# Altium schematic symbol library jlcpcb_2025_04_inductors_extended_0201.schlib: 459 symbols (part 2 of 9)
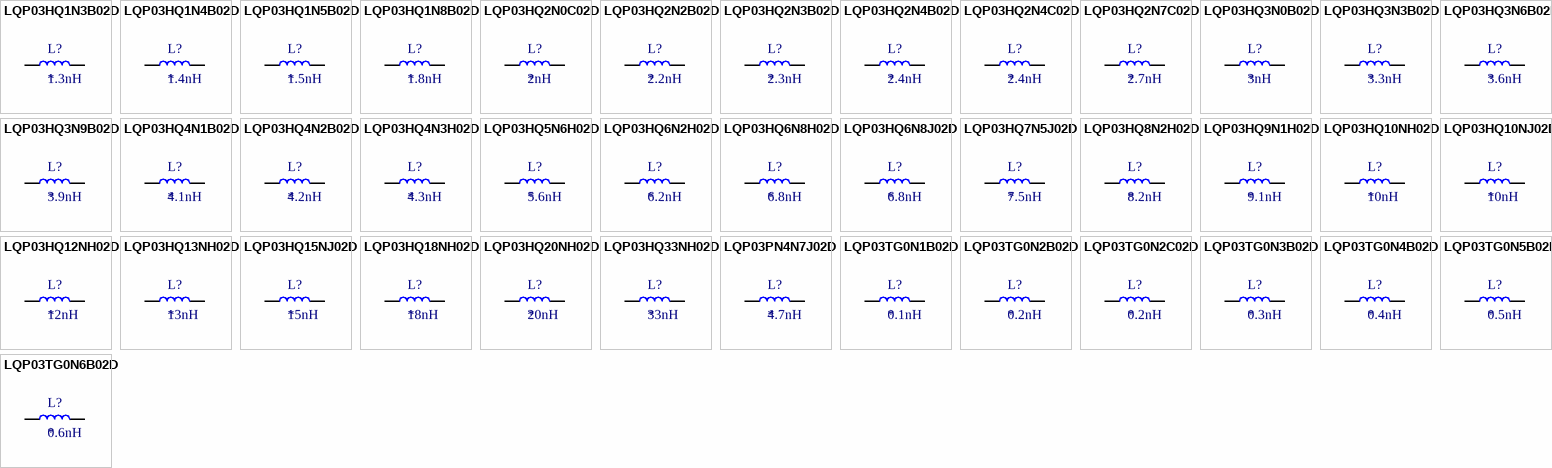
[diagram p12: symbols LQP03HQ1N3B02D to LQP03TG0N6B02D]

## LQP03HQ4N2B02D
designator L?  Inductance: 4.2nH
Inductor, 4.2nH, 170mΩ, 500mA, SMD 0201; Manufacturer: Murata Electronics; Manufacturer Part Number: LQP03HQ4N2B02D; Self-Resonant Frequency: 7GHz; Q Factor: 20@500MHz; Package Size: 0201; JLCPCB Basic Part: No; JLCPCB Part Number: C2043631; Supplier 1: LCSC; Category: Inductors; Supplier Part Number 1: C2043631; Rated Current: 500mA; DC Resistance: 170mΩ; RoHS: Yes; ComponentLink1Description: Datasheet; ComponentLink1URL: https://wmsc.lcsc.com/wmsc/upload/file/pdf/v2/lcsc/2304140030_Murata-Electronics-LQP03HQ4N2B02D_C2043631.pdf; ComponentLink2Description: JLCPCB Part URL; ComponentLink2URL: https://jlcpcb.com/partdetail/C2043631; ComponentLink3Description: LCSC Part URL; ComponentLink3URL: https://lcsc.com/product-detail/Inductors-SMD_Murata-Electronics-Murata-Electronics-LQP03HQ4N2B02D_C2043631.html
footprint IND-0201 (0201 (0603M) Inductor)
pins: 1, 2

## LQP03HQ4N3H02D
designator L?  Inductance: 4.3nH
Inductor, 4.3nH, ±3%, 170mΩ, 500mA, SMD 0201; Manufacturer: Murata Electronics; Manufacturer Part Number: LQP03HQ4N3H02D; Self-Resonant Frequency: 7GHz; Q Factor: 20@500MHz; Package Size: 0201; JLCPCB Basic Part: No; JLCPCB Part Number: C2988753; Supplier 1: LCSC; Category: Inductors; Supplier Part Number 1: C2988753; Tolerance: ±3%; Rated Current: 500mA; DC Resistance: 170mΩ; RoHS: Yes; ComponentLink1Description: Datasheet; ComponentLink1URL: https://wmsc.lcsc.com/wmsc/upload/file/pdf/v2/lcsc/2204151800_Murata-Electronics-LQP03HQ4N3H02D_C2988753.pdf; ComponentLink2Description: JLCPCB Part URL; ComponentLink2URL: https://jlcpcb.com/partdetail/C2988753; ComponentLink3Description: LCSC Part URL; ComponentLink3URL: https://lcsc.com/product-detail/Inductors-SMD_Murata-Electronics-Murata-Electronics-LQP03HQ4N3H02D_C2988753.html
footprint IND-0201 (0201 (0603M) Inductor)
pins: 1, 2

## LQP03HQ5N6H02D
designator L?  Inductance: 5.6nH
Inductor, 5.6nH, ±3%, 250mΩ, 400mA, SMD 0201; Manufacturer: Murata Electronics; Manufacturer Part Number: LQP03HQ5N6H02D; Self-Resonant Frequency: 5.5GHz; Q Factor: 20@500MHz; Package Size: 0201; JLCPCB Basic Part: No; JLCPCB Part Number: C237444; Supplier 1: LCSC; Category: Inductors; Supplier Part Number 1: C237444; Tolerance: ±3%; Rated Current: 400mA; DC Resistance: 250mΩ; RoHS: Yes; ComponentLink1Description: Datasheet; ComponentLink1URL: https://wmsc.lcsc.com/wmsc/upload/file/pdf/v2/lcsc/2304140030_Murata-Electronics-LQP03HQ5N6H02D_C237444.pdf; ComponentLink2Description: JLCPCB Part URL; ComponentLink2URL: https://jlcpcb.com/partdetail/C237444; ComponentLink3Description: LCSC Part URL; ComponentLink3URL: https://lcsc.com/product-detail/Inductors-SMD_Murata-Electronics-Murata-Electronics-LQP03HQ5N6H02D_C237444.html
footprint IND-0201 (0201 (0603M) Inductor)
pins: 1, 2

## LQP03HQ6N2H02D
designator L?  Inductance: 6.2nH
Inductor, 6.2nH, ±3%, 250mΩ, 400mA, SMD 0201; Manufacturer: Murata Electronics; Manufacturer Part Number: LQP03HQ6N2H02D; Self-Resonant Frequency: 5.5GHz; Q Factor: 20@500MHz; Package Size: 0201; JLCPCB Basic Part: No; JLCPCB Part Number: C2041601; Supplier 1: LCSC; Category: Inductors; Supplier Part Number 1: C2041601; Tolerance: ±3%; Rated Current: 400mA; DC Resistance: 250mΩ; RoHS: Yes; ComponentLink1Description: Datasheet; ComponentLink1URL: https://wmsc.lcsc.com/wmsc/upload/file/pdf/v2/lcsc/2304140030_Murata-Electronics-LQP03HQ6N2H02D_C2041601.pdf; ComponentLink2Description: JLCPCB Part URL; ComponentLink2URL: https://jlcpcb.com/partdetail/C2041601; ComponentLink3Description: LCSC Part URL; ComponentLink3URL: https://lcsc.com/product-detail/Inductors-SMD_Murata-Electronics-Murata-Electronics-LQP03HQ6N2H02D_C2041601.html
footprint IND-0201 (0201 (0603M) Inductor)
pins: 1, 2

## LQP03HQ6N8H02D
designator L?  Inductance: 6.8nH
Inductor, 6.8nH, ±3%, 250mΩ, 400mA, SMD 0201; Manufacturer: Murata Electronics; Manufacturer Part Number: LQP03HQ6N8H02D; Self-Resonant Frequency: 5.5GHz; Q Factor: 20@500MHz; Package Size: 0201; JLCPCB Basic Part: No; JLCPCB Part Number: C237385; Supplier 1: LCSC; Category: Inductors; Supplier Part Number 1: C237385; Tolerance: ±3%; Rated Current: 400mA; DC Resistance: 250mΩ; RoHS: Yes; ComponentLink1Description: Datasheet; ComponentLink1URL: https://wmsc.lcsc.com/wmsc/upload/file/pdf/v2/lcsc/2304140030_Murata-Electronics-LQP03HQ6N8H02D_C237385.pdf; ComponentLink2Description: JLCPCB Part URL; ComponentLink2URL: https://jlcpcb.com/partdetail/C237385; ComponentLink3Description: LCSC Part URL; ComponentLink3URL: https://lcsc.com/product-detail/Inductors-SMD_Murata-Electronics-Murata-Electronics-LQP03HQ6N8H02D_C237385.html
footprint IND-0201 (0201 (0603M) Inductor)
pins: 1, 2

## LQP03HQ6N8J02D
designator L?  Inductance: 6.8nH
Inductor, 6.8nH, ±5%, 250mΩ, 400mA, SMD 0201; Manufacturer: Murata Electronics; Manufacturer Part Number: LQP03HQ6N8J02D; Self-Resonant Frequency: 5.5GHz; Q Factor: 20@500MHz; Package Size: 0201; JLCPCB Basic Part: No; JLCPCB Part Number: C337941; Supplier 1: LCSC; Category: Inductors; Supplier Part Number 1: C337941; Tolerance: ±5%; Rated Current: 400mA; DC Resistance: 250mΩ; RoHS: Yes; ComponentLink1Description: Datasheet; ComponentLink1URL: https://wmsc.lcsc.com/wmsc/upload/file/pdf/v2/lcsc/2304140030_Murata-Electronics-LQP03HQ6N8J02D_C337941.pdf; ComponentLink2Description: JLCPCB Part URL; ComponentLink2URL: https://jlcpcb.com/partdetail/C337941; ComponentLink3Description: LCSC Part URL; ComponentLink3URL: https://lcsc.com/product-detail/Inductors-SMD_Murata-Electronics-Murata-Electronics-LQP03HQ6N8J02D_C337941.html
footprint IND-0201 (0201 (0603M) Inductor)
pins: 1, 2

## LQP03HQ7N5J02D
designator L?  Inductance: 7.5nH
Inductor, 7.5nH, ±5%, 300mΩ, 400mA, SMD 0201; Manufacturer: Murata Electronics; Manufacturer Part Number: LQP03HQ7N5J02D; Self-Resonant Frequency: 4.5GHz; Q Factor: 20@500MHz; Package Size: 0201; JLCPCB Basic Part: No; JLCPCB Part Number: C237448; Supplier 1: LCSC; Category: Inductors; Supplier Part Number 1: C237448; Tolerance: ±5%; Rated Current: 400mA; DC Resistance: 300mΩ; RoHS: Yes; ComponentLink1Description: Datasheet; ComponentLink1URL: https://wmsc.lcsc.com/wmsc/upload/file/pdf/v2/lcsc/2304140030_Murata-Electronics-LQP03HQ7N5J02D_C237448.pdf; ComponentLink2Description: JLCPCB Part URL; ComponentLink2URL: https://jlcpcb.com/partdetail/C237448; ComponentLink3Description: LCSC Part URL; ComponentLink3URL: https://lcsc.com/product-detail/Inductors-SMD_Murata-Electronics-Murata-Electronics-LQP03HQ7N5J02D_C237448.html
footprint IND-0201 (0201 (0603M) Inductor)
pins: 1, 2

## LQP03HQ8N2H02D
designator L?  Inductance: 8.2nH
Inductor, 8.2nH, ±3%, 400mΩ, 300mA, SMD 0201; Manufacturer: Murata Electronics; Manufacturer Part Number: LQP03HQ8N2H02D; Self-Resonant Frequency: 4.5GHz; Q Factor: 20@500MHz; Package Size: 0201; JLCPCB Basic Part: No; JLCPCB Part Number: C269808; Supplier 1: LCSC; Category: Inductors; Supplier Part Number 1: C269808; Tolerance: ±3%; Rated Current: 300mA; DC Resistance: 400mΩ; RoHS: Yes; ComponentLink1Description: Datasheet; ComponentLink1URL: https://wmsc.lcsc.com/wmsc/upload/file/pdf/v2/lcsc/2304140030_Murata-Electronics-LQP03HQ8N2H02D_C269808.pdf; ComponentLink2Description: JLCPCB Part URL; ComponentLink2URL: https://jlcpcb.com/partdetail/C269808; ComponentLink3Description: LCSC Part URL; ComponentLink3URL: https://lcsc.com/product-detail/Inductors-SMD_Murata-Electronics-Murata-Electronics-LQP03HQ8N2H02D_C269808.html
footprint IND-0201 (0201 (0603M) Inductor)
pins: 1, 2

## LQP03HQ9N1H02D
designator L?  Inductance: 9.1nH
Inductor, 9.1nH, ±3%, 400mΩ, 300mA, SMD 0201; Manufacturer: Murata Electronics; Manufacturer Part Number: LQP03HQ9N1H02D; Self-Resonant Frequency: 4.5GHz; Q Factor: 20@500MHz; Package Size: 0201; JLCPCB Basic Part: No; JLCPCB Part Number: C337942; Supplier 1: LCSC; Category: Inductors; Supplier Part Number 1: C337942; Tolerance: ±3%; Rated Current: 300mA; DC Resistance: 400mΩ; RoHS: Yes; ComponentLink1Description: Datasheet; ComponentLink1URL: https://wmsc.lcsc.com/wmsc/upload/file/pdf/v2/lcsc/2304140030_Murata-Electronics-LQP03HQ9N1H02D_C337942.pdf; ComponentLink2Description: JLCPCB Part URL; ComponentLink2URL: https://jlcpcb.com/partdetail/C337942; ComponentLink3Description: LCSC Part URL; ComponentLink3URL: https://lcsc.com/product-detail/Inductors-SMD_Murata-Electronics-Murata-Electronics-LQP03HQ9N1H02D_C337942.html
footprint IND-0201 (0201 (0603M) Inductor)
pins: 1, 2

## LQP03HQ10NH02D
designator L?  Inductance: 10nH
Inductor, 10nH, ±3%, 400mΩ, 300mA, SMD 0201; Manufacturer: Murata Electronics; Manufacturer Part Number: LQP03HQ10NH02D; Self-Resonant Frequency: 4.5GHz; Q Factor: 20@500MHz; Package Size: 0201; JLCPCB Basic Part: No; JLCPCB Part Number: C337934; Supplier 1: LCSC; Category: Inductors; Supplier Part Number 1: C337934; Tolerance: ±3%; Rated Current: 300mA; DC Resistance: 400mΩ; RoHS: Yes; ComponentLink1Description: Datasheet; ComponentLink1URL: https://wmsc.lcsc.com/wmsc/upload/file/pdf/v2/lcsc/2304140030_Murata-Electronics-LQP03HQ10NH02D_C337934.pdf; ComponentLink2Description: JLCPCB Part URL; ComponentLink2URL: https://jlcpcb.com/partdetail/C337934; ComponentLink3Description: LCSC Part URL; ComponentLink3URL: https://lcsc.com/product-detail/Inductors-SMD_Murata-Electronics-Murata-Electronics-LQP03HQ10NH02D_C337934.html
footprint IND-0201 (0201 (0603M) Inductor)
pins: 1, 2

## LQP03HQ10NJ02D
designator L?  Inductance: 10nH
Inductor, 10nH, ±5%, 400mΩ, 300mA, SMD 0201; Manufacturer: Murata Electronics; Manufacturer Part Number: LQP03HQ10NJ02D; Self-Resonant Frequency: 5.9GHz; Q Factor: 20@500MHz; Package Size: 0201; JLCPCB Basic Part: No; JLCPCB Part Number: C2041464; Supplier 1: LCSC; Category: Inductors; Supplier Part Number 1: C2041464; Tolerance: ±5%; Rated Current: 300mA; DC Resistance: 400mΩ; RoHS: Yes; ComponentLink1Description: Datasheet; ComponentLink1URL: https://wmsc.lcsc.com/wmsc/upload/file/pdf/v2/lcsc/2304140030_Murata-Electronics-LQP03HQ10NJ02D_C2041464.pdf; ComponentLink2Description: JLCPCB Part URL; ComponentLink2URL: https://jlcpcb.com/partdetail/C2041464; ComponentLink3Description: LCSC Part URL; ComponentLink3URL: https://lcsc.com/product-detail/Inductors-SMD_Murata-Electronics-Murata-Electronics-LQP03HQ10NJ02D_C2041464.html
footprint IND-0201 (0201 (0603M) Inductor)
pins: 1, 2

## LQP03HQ12NH02D
designator L?  Inductance: 12nH
Inductor, 12nH, ±3%, 500mΩ, 300mA, SMD 0201; Manufacturer: Murata Electronics; Manufacturer Part Number: LQP03HQ12NH02D; Self-Resonant Frequency: 4GHz; Q Factor: 20@500MHz; Package Size: 0201; JLCPCB Basic Part: No; JLCPCB Part Number: C882473; Supplier 1: LCSC; Category: Inductors; Supplier Part Number 1: C882473; Tolerance: ±3%; Rated Current: 300mA; DC Resistance: 500mΩ; RoHS: Yes; ComponentLink1Description: Datasheet; ComponentLink1URL: https://wmsc.lcsc.com/wmsc/upload/file/pdf/v2/lcsc/2201242130_Murata-Electronics-LQP03HQ12NH02D_C882473.pdf; ComponentLink2Description: JLCPCB Part URL; ComponentLink2URL: https://jlcpcb.com/partdetail/C882473; ComponentLink3Description: LCSC Part URL; ComponentLink3URL: https://lcsc.com/product-detail/Inductors-SMD_Murata-Electronics-Murata-Electronics-LQP03HQ12NH02D_C882473.html
footprint IND-0201 (0201 (0603M) Inductor)
pins: 1, 2

## LQP03HQ13NH02D
designator L?  Inductance: 13nH
Inductor, 13nH, ±3%, 500mΩ, 300mA, SMD 0201; Manufacturer: Murata Electronics; Manufacturer Part Number: LQP03HQ13NH02D; Self-Resonant Frequency: 4GHz; Q Factor: 20@500MHz; Package Size: 0201; JLCPCB Basic Part: No; JLCPCB Part Number: C2044030; Supplier 1: LCSC; Category: Inductors; Supplier Part Number 1: C2044030; Tolerance: ±3%; Rated Current: 300mA; DC Resistance: 500mΩ; RoHS: Yes; ComponentLink1Description: Datasheet; ComponentLink1URL: https://wmsc.lcsc.com/wmsc/upload/file/pdf/v2/lcsc/2304140030_Murata-Electronics-LQP03HQ13NH02D_C2044030.pdf; ComponentLink2Description: JLCPCB Part URL; ComponentLink2URL: https://jlcpcb.com/partdetail/C2044030; ComponentLink3Description: LCSC Part URL; ComponentLink3URL: https://lcsc.com/product-detail/Inductors-SMD_Murata-Electronics-Murata-Electronics-LQP03HQ13NH02D_C2044030.html
footprint IND-0201 (0201 (0603M) Inductor)
pins: 1, 2

## LQP03HQ15NJ02D
designator L?  Inductance: 15nH
Inductor, 15nH, ±5%, 700mΩ, 300mA, SMD 0201; Manufacturer: Murata Electronics; Manufacturer Part Number: LQP03HQ15NJ02D; Self-Resonant Frequency: 3.5GHz; Q Factor: 20@500MHz; Package Size: 0201; JLCPCB Basic Part: No; JLCPCB Part Number: C426324; Supplier 1: LCSC; Category: Inductors; Supplier Part Number 1: C426324; Tolerance: ±5%; Rated Current: 300mA; DC Resistance: 700mΩ; RoHS: Yes; ComponentLink1Description: Datasheet; ComponentLink1URL: https://wmsc.lcsc.com/wmsc/upload/file/pdf/v2/lcsc/1912111437_Murata-Electronics-LQP03HQ15NJ02D_C426324.pdf; ComponentLink2Description: JLCPCB Part URL; ComponentLink2URL: https://jlcpcb.com/partdetail/C426324; ComponentLink3Description: LCSC Part URL; ComponentLink3URL: https://lcsc.com/product-detail/Inductors-SMD_Murata-Electronics-Murata-Electronics-LQP03HQ15NJ02D_C426324.html
footprint IND-0201 (0201 (0603M) Inductor)
pins: 1, 2

## LQP03HQ18NH02D
designator L?  Inductance: 18nH
Inductor, 18nH, ±3%, 800mΩ, 250mA, SMD 0201; Manufacturer: Murata Electronics; Manufacturer Part Number: LQP03HQ18NH02D; Self-Resonant Frequency: 4.2GHz; Q Factor: 20@500MHz; Package Size: 0201; JLCPCB Basic Part: No; JLCPCB Part Number: C337936; Supplier 1: LCSC; Category: Inductors; Supplier Part Number 1: C337936; Tolerance: ±3%; Rated Current: 250mA; DC Resistance: 800mΩ; RoHS: Yes; ComponentLink1Description: Datasheet; ComponentLink1URL: https://wmsc.lcsc.com/wmsc/upload/file/pdf/v2/lcsc/2304140030_Murata-Electronics-LQP03HQ18NH02D_C337936.pdf; ComponentLink2Description: JLCPCB Part URL; ComponentLink2URL: https://jlcpcb.com/partdetail/C337936; ComponentLink3Description: LCSC Part URL; ComponentLink3URL: https://lcsc.com/product-detail/Inductors-SMD_Murata-Electronics-Murata-Electronics-LQP03HQ18NH02D_C337936.html
footprint IND-0201 (0201 (0603M) Inductor)
pins: 1, 2

## LQP03HQ20NH02D
designator L?  Inductance: 20nH
Inductor, 20nH, ±3%, 800mΩ, 250mA, SMD 0201; Manufacturer: Murata Electronics; Manufacturer Part Number: LQP03HQ20NH02D; Self-Resonant Frequency: 3GHz; Q Factor: 20@500MHz; Package Size: 0201; JLCPCB Basic Part: No; JLCPCB Part Number: C2043820; Supplier 1: LCSC; Category: Inductors; Supplier Part Number 1: C2043820; Tolerance: ±3%; Rated Current: 250mA; DC Resistance: 800mΩ; RoHS: Yes; ComponentLink1Description: Datasheet; ComponentLink1URL: https://wmsc.lcsc.com/wmsc/upload/file/pdf/v2/lcsc/2304140030_Murata-Electronics-LQP03HQ20NH02D_C2043820.pdf; ComponentLink2Description: JLCPCB Part URL; ComponentLink2URL: https://jlcpcb.com/partdetail/C2043820; ComponentLink3Description: LCSC Part URL; ComponentLink3URL: https://lcsc.com/product-detail/Inductors-SMD_Murata-Electronics-Murata-Electronics-LQP03HQ20NH02D_C2043820.html
footprint IND-0201 (0201 (0603M) Inductor)
pins: 1, 2

## LQP03HQ33NH02D
designator L?  Inductance: 33nH
Inductor, 33nH, ±3%, 2Ω, 150mA, SMD 0201; Manufacturer: Murata Electronics; Manufacturer Part Number: LQP03HQ33NH02D; Self-Resonant Frequency: 1.7GHz; Q Factor: 12@300MHz; Package Size: 0201; JLCPCB Basic Part: No; JLCPCB Part Number: C1857880; Supplier 1: LCSC; Category: Inductors; Supplier Part Number 1: C1857880; Tolerance: ±3%; Rated Current: 150mA; DC Resistance: 2Ω; RoHS: Yes; ComponentLink1Description: Datasheet; ComponentLink1URL: https://wmsc.lcsc.com/wmsc/upload/file/pdf/v2/lcsc/2304140030_Murata-Electronics-LQP03HQ33NH02D_C1857880.pdf; ComponentLink2Description: JLCPCB Part URL; ComponentLink2URL: https://jlcpcb.com/partdetail/C1857880; ComponentLink3Description: LCSC Part URL; ComponentLink3URL: https://lcsc.com/product-detail/Inductors-SMD_Murata-Electronics-Murata-Electronics-LQP03HQ33NH02D_C1857880.html
footprint IND-0201 (0201 (0603M) Inductor)
pins: 1, 2

## LQP03PN4N7J02D
designator L?  Inductance: 4.7nH
Inductor, 4.7nH, ±5%, 140mΩ, 900mA, SMD 0201; Manufacturer: Murata Electronics; Manufacturer Part Number: LQP03PN4N7J02D; Self-Resonant Frequency: 4.4GHz; Q Factor: 10@500MHz; Package Size: 0201; JLCPCB Basic Part: No; JLCPCB Part Number: C2043850; Supplier 1: LCSC; Category: Inductors; Supplier Part Number 1: C2043850; Tolerance: ±5%; Rated Current: 900mA; DC Resistance: 140mΩ; RoHS: Yes; ComponentLink1Description: Datasheet; ComponentLink1URL: https://wmsc.lcsc.com/wmsc/upload/file/pdf/v2/lcsc/2308111541_Murata-Electronics-LQP03PN4N7J02D_C2043850.pdf; ComponentLink2Description: JLCPCB Part URL; ComponentLink2URL: https://jlcpcb.com/partdetail/C2043850; ComponentLink3Description: LCSC Part URL; ComponentLink3URL: https://lcsc.com/product-detail/Inductors-SMD_Murata-Electronics-Murata-Electronics-LQP03PN4N7J02D_C2043850.html
footprint IND-0201 (0201 (0603M) Inductor)
pins: 1, 2

## LQP03TG0N1B02D
designator L?  Inductance: 0.1nH
Inductor, 0.1nH, 70mΩ, 850mA, SMD 0201; Manufacturer: Murata Electronics; Manufacturer Part Number: LQP03TG0N1B02D; Self-Resonant Frequency: 20GHz; Package Size: 0201; JLCPCB Basic Part: No; JLCPCB Part Number: C701267; Supplier 1: LCSC; Category: Inductors; Supplier Part Number 1: C701267; Rated Current: 850mA; DC Resistance: 70mΩ; RoHS: Yes; ComponentLink1Description: Datasheet; ComponentLink1URL: https://wmsc.lcsc.com/wmsc/upload/file/pdf/v2/lcsc/2304140030_Murata-Electronics-LQP03TG0N1B02D_C701267.pdf; ComponentLink2Description: JLCPCB Part URL; ComponentLink2URL: https://jlcpcb.com/partdetail/C701267; ComponentLink3Description: LCSC Part URL; ComponentLink3URL: https://lcsc.com/product-detail/Inductors-SMD_Murata-Electronics-Murata-Electronics-LQP03TG0N1B02D_C701267.html
footprint IND-0201 (0201 (0603M) Inductor)
pins: 1, 2

## LQP03TG0N2B02D
designator L?  Inductance: 0.2nH
Inductor, 0.2nH, 80mΩ, 850mA, SMD 0201; Manufacturer: Murata Electronics; Manufacturer Part Number: LQP03TG0N2B02D; Self-Resonant Frequency: 20GHz; Package Size: 0201; JLCPCB Basic Part: No; JLCPCB Part Number: C701279; Supplier 1: LCSC; Category: Inductors; Supplier Part Number 1: C701279; Rated Current: 850mA; DC Resistance: 80mΩ; RoHS: Yes; ComponentLink1Description: Datasheet; ComponentLink1URL: https://wmsc.lcsc.com/wmsc/upload/file/pdf/v2/lcsc/2304140030_Murata-Electronics-LQP03TG0N2B02D_C701279.pdf; ComponentLink2Description: JLCPCB Part URL; ComponentLink2URL: https://jlcpcb.com/partdetail/C701279; ComponentLink3Description: LCSC Part URL; ComponentLink3URL: https://lcsc.com/product-detail/Inductors-SMD_Murata-Electronics-Murata-Electronics-LQP03TG0N2B02D_C701279.html
footprint IND-0201 (0201 (0603M) Inductor)
pins: 1, 2

## LQP03TG0N2C02D
designator L?  Inductance: 0.2nH
Inductor, 0.2nH, 80mΩ, 850mA, SMD 0201; Manufacturer: Murata Electronics; Manufacturer Part Number: LQP03TG0N2C02D; Self-Resonant Frequency: 20GHz; Package Size: 0201; JLCPCB Basic Part: No; JLCPCB Part Number: C703743; Supplier 1: LCSC; Category: Inductors; Supplier Part Number 1: C703743; Rated Current: 850mA; DC Resistance: 80mΩ; RoHS: Yes; ComponentLink1Description: Datasheet; ComponentLink1URL: https://wmsc.lcsc.com/wmsc/upload/file/pdf/v2/lcsc/2304140030_Murata-Electronics-LQP03TG0N2C02D_C703743.pdf; ComponentLink2Description: JLCPCB Part URL; ComponentLink2URL: https://jlcpcb.com/partdetail/C703743; ComponentLink3Description: LCSC Part URL; ComponentLink3URL: https://lcsc.com/product-detail/Inductors-SMD_Murata-Electronics-Murata-Electronics-LQP03TG0N2C02D_C703743.html
footprint IND-0201 (0201 (0603M) Inductor)
pins: 1, 2

## LQP03TG0N3B02D
designator L?  Inductance: 0.3nH
Inductor, 0.3nH, 80mΩ, 850mA, SMD 0201; Manufacturer: Murata Electronics; Manufacturer Part Number: LQP03TG0N3B02D; Self-Resonant Frequency: 18GHz; Package Size: 0201; JLCPCB Basic Part: No; JLCPCB Part Number: C437352; Supplier 1: LCSC; Category: Inductors; Supplier Part Number 1: C437352; Rated Current: 850mA; DC Resistance: 80mΩ; RoHS: Yes; ComponentLink1Description: Datasheet; ComponentLink1URL: https://wmsc.lcsc.com/wmsc/upload/file/pdf/v2/lcsc/2304140030_Murata-Electronics-LQP03TG0N3B02D_C437352.pdf; ComponentLink2Description: JLCPCB Part URL; ComponentLink2URL: https://jlcpcb.com/partdetail/C437352; ComponentLink3Description: LCSC Part URL; ComponentLink3URL: https://lcsc.com/product-detail/Inductors-SMD_Murata-Electronics-Murata-Electronics-LQP03TG0N3B02D_C437352.html
footprint IND-0201 (0201 (0603M) Inductor)
pins: 1, 2

## LQP03TG0N4B02D
designator L?  Inductance: 0.4nH
Inductor, 0.4nH, 80mΩ, 850mA, SMD 0201; Manufacturer: Murata Electronics; Manufacturer Part Number: LQP03TG0N4B02D; Self-Resonant Frequency: 18GHz; Package Size: 0201; JLCPCB Basic Part: No; JLCPCB Part Number: C701278; Supplier 1: LCSC; Category: Inductors; Supplier Part Number 1: C701278; Rated Current: 850mA; DC Resistance: 80mΩ; RoHS: Yes; ComponentLink1Description: Datasheet; ComponentLink1URL: https://wmsc.lcsc.com/wmsc/upload/file/pdf/v2/lcsc/2304140030_Murata-Electronics-LQP03TG0N4B02D_C701278.pdf; ComponentLink2Description: JLCPCB Part URL; ComponentLink2URL: https://jlcpcb.com/partdetail/C701278; ComponentLink3Description: LCSC Part URL; ComponentLink3URL: https://lcsc.com/product-detail/Inductors-SMD_Murata-Electronics-Murata-Electronics-LQP03TG0N4B02D_C701278.html
footprint IND-0201 (0201 (0603M) Inductor)
pins: 1, 2

## LQP03TG0N5B02D
designator L?  Inductance: 0.5nH
Inductor, 0.5nH, 80mΩ, 850mA, SMD 0201; Manufacturer: Murata Electronics; Manufacturer Part Number: LQP03TG0N5B02D; Self-Resonant Frequency: 20GHz; Q Factor: 11@500MHz; Package Size: 0201; JLCPCB Basic Part: No; JLCPCB Part Number: C206460; Supplier 1: LCSC; Category: Inductors; Supplier Part Number 1: C206460; Rated Current: 850mA; DC Resistance: 80mΩ; RoHS: Yes; ComponentLink1Description: Datasheet; ComponentLink1URL: https://wmsc.lcsc.com/wmsc/upload/file/pdf/v2/lcsc/2304140030_Murata-Electronics-LQP03TG0N5B02D_C206460.pdf; ComponentLink2Description: JLCPCB Part URL; ComponentLink2URL: https://jlcpcb.com/partdetail/C206460; ComponentLink3Description: LCSC Part URL; ComponentLink3URL: https://lcsc.com/product-detail/Inductors-SMD_Murata-Electronics-Murata-Electronics-LQP03TG0N5B02D_C206460.html
footprint IND-0201 (0201 (0603M) Inductor)
pins: 1, 2

## LQP03TG0N6B02D
designator L?  Inductance: 0.6nH
Inductor, 0.6nH, 80mΩ, 850mA, SMD 0201; Manufacturer: Murata Electronics; Manufacturer Part Number: LQP03TG0N6B02D; Self-Resonant Frequency: 20GHz; Q Factor: 11@500MHz; Package Size: 0201; JLCPCB Basic Part: No; JLCPCB Part Number: C162589; Supplier 1: LCSC; Category: Inductors; Supplier Part Number 1: C162589; Rated Current: 850mA; DC Resistance: 80mΩ; RoHS: Yes; ComponentLink1Description: Datasheet; ComponentLink1URL: https://wmsc.lcsc.com/wmsc/upload/file/pdf/v2/lcsc/2304140030_Murata-Electronics-LQP03TG0N6B02D_C162589.pdf; ComponentLink2Description: JLCPCB Part URL; ComponentLink2URL: https://jlcpcb.com/partdetail/C162589; ComponentLink3Description: LCSC Part URL; ComponentLink3URL: https://lcsc.com/product-detail/Inductors-SMD_Murata-Electronics-Murata-Electronics-LQP03TG0N6B02D_C162589.html
footprint IND-0201 (0201 (0603M) Inductor)
pins: 1, 2

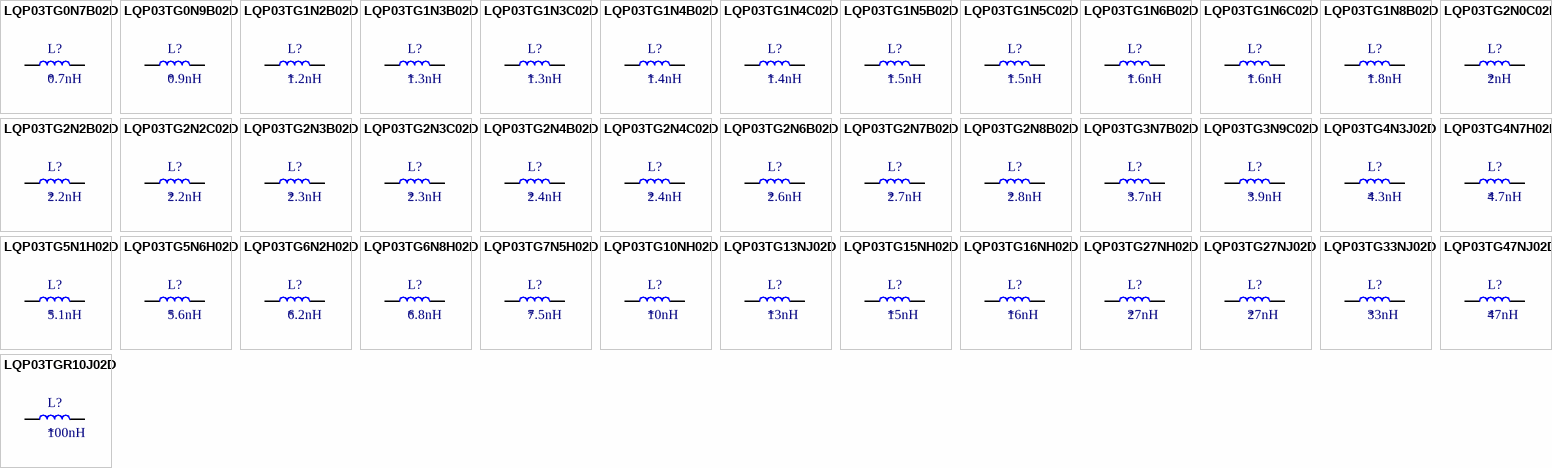
[diagram p2: symbols LQP03TG0N7B02D to LQP03TGR10J02D]

## LQP03TG0N7B02D
designator L?  Inductance: 0.7nH
Inductor, 0.7nH, 100mΩ, 750mA, SMD 0201; Manufacturer: Murata Electronics; Manufacturer Part Number: LQP03TG0N7B02D; Self-Resonant Frequency: 18GHz; Q Factor: 12@500MHz; Package Size: 0201; JLCPCB Basic Part: No; JLCPCB Part Number: C437353; Supplier 1: LCSC; Category: Inductors; Supplier Part Number 1: C437353; Rated Current: 750mA; DC Resistance: 100mΩ; RoHS: Yes; ComponentLink1Description: Datasheet; ComponentLink1URL: https://wmsc.lcsc.com/wmsc/upload/file/pdf/v2/lcsc/2304140030_Murata-Electronics-LQP03TG0N7B02D_C437353.pdf; ComponentLink2Description: JLCPCB Part URL; ComponentLink2URL: https://jlcpcb.com/partdetail/C437353; ComponentLink3Description: LCSC Part URL; ComponentLink3URL: https://lcsc.com/product-detail/Inductors-SMD_Murata-Electronics-Murata-Electronics-LQP03TG0N7B02D_C437353.html
footprint IND-0201 (0201 (0603M) Inductor)
pins: 1, 2

## LQP03TG0N9B02D
designator L?  Inductance: 0.9nH
Inductor, 0.9nH, 120mΩ, 700mA, SMD 0201; Manufacturer: Murata Electronics; Manufacturer Part Number: LQP03TG0N9B02D; Self-Resonant Frequency: 20GHz; Q Factor: 12@500MHz; Package Size: 0201; JLCPCB Basic Part: No; JLCPCB Part Number: C162590; Supplier 1: LCSC; Category: Inductors; Supplier Part Number 1: C162590; Rated Current: 700mA; DC Resistance: 120mΩ; RoHS: Yes; ComponentLink1Description: Datasheet; ComponentLink1URL: https://wmsc.lcsc.com/wmsc/upload/file/pdf/v2/lcsc/2304140030_Murata-Electronics-LQP03TG0N9B02D_C162590.pdf; ComponentLink2Description: JLCPCB Part URL; ComponentLink2URL: https://jlcpcb.com/partdetail/C162590; ComponentLink3Description: LCSC Part URL; ComponentLink3URL: https://lcsc.com/product-detail/Inductors-SMD_Murata-Electronics-Murata-Electronics-LQP03TG0N9B02D_C162590.html
footprint IND-0201 (0201 (0603M) Inductor)
pins: 1, 2

## LQP03TG1N2B02D
designator L?  Inductance: 1.2nH
Inductor, 1.2nH, 150mΩ, 600mA, SMD 0201; Manufacturer: Murata Electronics; Manufacturer Part Number: LQP03TG1N2B02D; Self-Resonant Frequency: 15GHz; Q Factor: 13@500MHz; Package Size: 0201; JLCPCB Basic Part: No; JLCPCB Part Number: C86101; Supplier 1: LCSC; Category: Inductors; Supplier Part Number 1: C86101; Rated Current: 600mA; DC Resistance: 150mΩ; RoHS: Yes; ComponentLink1Description: Datasheet; ComponentLink1URL: https://wmsc.lcsc.com/wmsc/upload/file/pdf/v2/lcsc/2304140030_Murata-Electronics-LQP03TG1N2B02D_C86101.pdf; ComponentLink2Description: JLCPCB Part URL; ComponentLink2URL: https://jlcpcb.com/partdetail/C86101; ComponentLink3Description: LCSC Part URL; ComponentLink3URL: https://lcsc.com/product-detail/Inductors-SMD_Murata-Electronics-Murata-Electronics-LQP03TG1N2B02D_C86101.html
footprint IND-0201 (0201 (0603M) Inductor)
pins: 1, 2

## LQP03TG1N3B02D
designator L?  Inductance: 1.3nH
Inductor, 1.3nH, 150mΩ, 600mA, SMD 0201; Manufacturer: Murata Electronics; Manufacturer Part Number: LQP03TG1N3B02D; Self-Resonant Frequency: 15GHz; Q Factor: 13@500MHz; Package Size: 0201; JLCPCB Basic Part: No; JLCPCB Part Number: C162591; Supplier 1: LCSC; Category: Inductors; Supplier Part Number 1: C162591; Rated Current: 600mA; DC Resistance: 150mΩ; RoHS: Yes; ComponentLink1Description: Datasheet; ComponentLink1URL: https://wmsc.lcsc.com/wmsc/upload/file/pdf/v2/lcsc/2304140030_Murata-Electronics-LQP03TG1N3B02D_C162591.pdf; ComponentLink2Description: JLCPCB Part URL; ComponentLink2URL: https://jlcpcb.com/partdetail/C162591; ComponentLink3Description: LCSC Part URL; ComponentLink3URL: https://lcsc.com/product-detail/Inductors-SMD_Murata-Electronics-Murata-Electronics-LQP03TG1N3B02D_C162591.html
footprint IND-0201 (0201 (0603M) Inductor)
pins: 1, 2

## LQP03TG1N3C02D
designator L?  Inductance: 1.3nH
Inductor, 1.3nH, 150mΩ, 600mA, SMD 0201; Manufacturer: Murata Electronics; Manufacturer Part Number: LQP03TG1N3C02D; Self-Resonant Frequency: 15GHz; Q Factor: 13@500MHz; Package Size: 0201; JLCPCB Basic Part: No; JLCPCB Part Number: C269809; Supplier 1: LCSC; Category: Inductors; Supplier Part Number 1: C269809; Rated Current: 600mA; DC Resistance: 150mΩ; RoHS: Yes; ComponentLink1Description: Datasheet; ComponentLink1URL: https://wmsc.lcsc.com/wmsc/upload/file/pdf/v2/lcsc/2308111549_Murata-Electronics-LQP03TG1N3C02D_C269809.pdf; ComponentLink2Description: JLCPCB Part URL; ComponentLink2URL: https://jlcpcb.com/partdetail/C269809; ComponentLink3Description: LCSC Part URL; ComponentLink3URL: https://lcsc.com/product-detail/Inductors-SMD_Murata-Electronics-Murata-Electronics-LQP03TG1N3C02D_C269809.html
footprint IND-0201 (0201 (0603M) Inductor)
pins: 1, 2

## LQP03TG1N4B02D
designator L?  Inductance: 1.4nH
Inductor, 1.4nH, 150mΩ, 600mA, SMD 0201; Manufacturer: Murata Electronics; Manufacturer Part Number: LQP03TG1N4B02D; Self-Resonant Frequency: 14GHz; Q Factor: 13@500MHz; Package Size: 0201; JLCPCB Basic Part: No; JLCPCB Part Number: C337487; Supplier 1: LCSC; Category: Inductors; Supplier Part Number 1: C337487; Rated Current: 600mA; DC Resistance: 150mΩ; RoHS: Yes; ComponentLink1Description: Datasheet; ComponentLink1URL: https://wmsc.lcsc.com/wmsc/upload/file/pdf/v2/lcsc/2304140030_Murata-Electronics-LQP03TG1N4B02D_C337487.pdf; ComponentLink2Description: JLCPCB Part URL; ComponentLink2URL: https://jlcpcb.com/partdetail/C337487; ComponentLink3Description: LCSC Part URL; ComponentLink3URL: https://lcsc.com/product-detail/Inductors-SMD_Murata-Electronics-Murata-Electronics-LQP03TG1N4B02D_C337487.html
footprint IND-0201 (0201 (0603M) Inductor)
pins: 1, 2

## LQP03TG1N4C02D
designator L?  Inductance: 1.4nH
Inductor, 1.4nH, 150mΩ, 600mA, SMD 0201; Manufacturer: Murata Electronics; Manufacturer Part Number: LQP03TG1N4C02D; Self-Resonant Frequency: 14GHz; Q Factor: 13@500MHz; Package Size: 0201; JLCPCB Basic Part: No; JLCPCB Part Number: C703741; Supplier 1: LCSC; Category: Inductors; Supplier Part Number 1: C703741; Rated Current: 600mA; DC Resistance: 150mΩ; RoHS: Yes; ComponentLink1Description: Datasheet; ComponentLink1URL: https://wmsc.lcsc.com/wmsc/upload/file/pdf/v2/lcsc/2304140030_Murata-Electronics-LQP03TG1N4C02D_C703741.pdf; ComponentLink2Description: JLCPCB Part URL; ComponentLink2URL: https://jlcpcb.com/partdetail/C703741; ComponentLink3Description: LCSC Part URL; ComponentLink3URL: https://lcsc.com/product-detail/Inductors-SMD_Murata-Electronics-Murata-Electronics-LQP03TG1N4C02D_C703741.html
footprint IND-0201 (0201 (0603M) Inductor)
pins: 1, 2

## LQP03TG1N5B02D
designator L?  Inductance: 1.5nH
Inductor, 1.5nH, 150mΩ, 600mA, SMD 0201; Manufacturer: Murata Electronics; Manufacturer Part Number: LQP03TG1N5B02D; Self-Resonant Frequency: 6GHz; Q Factor: 13@500MHz; Package Size: 0201; JLCPCB Basic Part: No; JLCPCB Part Number: C86102; Supplier 1: LCSC; Category: Inductors; Supplier Part Number 1: C86102; Rated Current: 600mA; DC Resistance: 150mΩ; RoHS: Yes; ComponentLink1Description: Datasheet; ComponentLink1URL: https://wmsc.lcsc.com/wmsc/upload/file/pdf/v2/lcsc/2304140030_Murata-Electronics-LQP03TG1N5B02D_C86102.pdf; ComponentLink2Description: JLCPCB Part URL; ComponentLink2URL: https://jlcpcb.com/partdetail/C86102; ComponentLink3Description: LCSC Part URL; ComponentLink3URL: https://lcsc.com/product-detail/Inductors-SMD_Murata-Electronics-Murata-Electronics-LQP03TG1N5B02D_C86102.html
footprint IND-0201 (0201 (0603M) Inductor)
pins: 1, 2

## LQP03TG1N5C02D
designator L?  Inductance: 1.5nH
Inductor, 1.5nH, 150mΩ, 600mA, SMD 0201; Manufacturer: Murata Electronics; Manufacturer Part Number: LQP03TG1N5C02D; Self-Resonant Frequency: 13.5GHz; Q Factor: 13@500MHz; Package Size: 0201; JLCPCB Basic Part: No; JLCPCB Part Number: C237406; Supplier 1: LCSC; Category: Inductors; Supplier Part Number 1: C237406; Rated Current: 600mA; DC Resistance: 150mΩ; RoHS: Yes; ComponentLink1Description: Datasheet; ComponentLink1URL: https://wmsc.lcsc.com/wmsc/upload/file/pdf/v2/lcsc/2304140030_Murata-Electronics-LQP03TG1N5C02D_C237406.pdf; ComponentLink2Description: JLCPCB Part URL; ComponentLink2URL: https://jlcpcb.com/partdetail/C237406; ComponentLink3Description: LCSC Part URL; ComponentLink3URL: https://lcsc.com/product-detail/Inductors-SMD_Murata-Electronics-Murata-Electronics-LQP03TG1N5C02D_C237406.html
footprint IND-0201 (0201 (0603M) Inductor)
pins: 1, 2

## LQP03TG1N6B02D
designator L?  Inductance: 1.6nH
Inductor, 1.6nH, 150mΩ, 600mA, SMD 0201; Manufacturer: Murata Electronics; Manufacturer Part Number: LQP03TG1N6B02D; Self-Resonant Frequency: 16.1GHz; Q Factor: 13@500MHz; Package Size: 0201; JLCPCB Basic Part: No; JLCPCB Part Number: C162592; Supplier 1: LCSC; Category: Inductors; Supplier Part Number 1: C162592; Rated Current: 600mA; DC Resistance: 150mΩ; RoHS: Yes; ComponentLink1Description: Datasheet; ComponentLink1URL: https://wmsc.lcsc.com/wmsc/upload/file/pdf/v2/lcsc/2304140030_Murata-Electronics-LQP03TG1N6B02D_C162592.pdf; ComponentLink2Description: JLCPCB Part URL; ComponentLink2URL: https://jlcpcb.com/partdetail/C162592; ComponentLink3Description: LCSC Part URL; ComponentLink3URL: https://lcsc.com/product-detail/Inductors-SMD_Murata-Electronics-Murata-Electronics-LQP03TG1N6B02D_C162592.html
footprint IND-0201 (0201 (0603M) Inductor)
pins: 1, 2

## LQP03TG1N6C02D
designator L?  Inductance: 1.6nH
Inductor, 1.6nH, 150mΩ, 600mA, SMD 0201; Manufacturer: Murata Electronics; Manufacturer Part Number: LQP03TG1N6C02D; Self-Resonant Frequency: 13GHz; Q Factor: 13@500MHz; Package Size: 0201; JLCPCB Basic Part: No; JLCPCB Part Number: C2045966; Supplier 1: LCSC; Category: Inductors; Supplier Part Number 1: C2045966; Rated Current: 600mA; DC Resistance: 150mΩ; RoHS: Yes; ComponentLink1Description: Datasheet; ComponentLink1URL: https://wmsc.lcsc.com/wmsc/upload/file/pdf/v2/lcsc/2304140030_Murata-Electronics-LQP03TG1N6C02D_C2045966.pdf; ComponentLink2Description: JLCPCB Part URL; ComponentLink2URL: https://jlcpcb.com/partdetail/C2045966; ComponentLink3Description: LCSC Part URL; ComponentLink3URL: https://lcsc.com/product-detail/Inductors-SMD_Murata-Electronics-Murata-Electronics-LQP03TG1N6C02D_C2045966.html
footprint IND-0201 (0201 (0603M) Inductor)
pins: 1, 2

## LQP03TG1N8B02D
designator L?  Inductance: 1.8nH
Inductor, 1.8nH, 200mΩ, 500mA, SMD 0201; Manufacturer: Murata Electronics; Manufacturer Part Number: LQP03TG1N8B02D; Self-Resonant Frequency: 12.5GHz; Q Factor: 13@500MHz; Package Size: 0201; JLCPCB Basic Part: No; JLCPCB Part Number: C86103; Supplier 1: LCSC; Category: Inductors; Supplier Part Number 1: C86103; Rated Current: 500mA; DC Resistance: 200mΩ; RoHS: Yes; ComponentLink1Description: Datasheet; ComponentLink1URL: https://wmsc.lcsc.com/wmsc/upload/file/pdf/v2/lcsc/2304140030_Murata-Electronics-LQP03TG1N8B02D_C86103.pdf; ComponentLink2Description: JLCPCB Part URL; ComponentLink2URL: https://jlcpcb.com/partdetail/C86103; ComponentLink3Description: LCSC Part URL; ComponentLink3URL: https://lcsc.com/product-detail/Inductors-SMD_Murata-Electronics-Murata-Electronics-LQP03TG1N8B02D_C86103.html
footprint IND-0201 (0201 (0603M) Inductor)
pins: 1, 2

## LQP03TG2N0C02D
designator L?  Inductance: 2nH
Inductor, 2nH, 250mΩ, 450mA, SMD 0201; Manufacturer: Murata Electronics; Manufacturer Part Number: LQP03TG2N0C02D; Self-Resonant Frequency: 14.8GHz; Q Factor: 13@500MHz; Package Size: 0201; JLCPCB Basic Part: No; JLCPCB Part Number: C162593; Supplier 1: LCSC; Category: Inductors; Supplier Part Number 1: C162593; Rated Current: 450mA; DC Resistance: 250mΩ; RoHS: Yes; ComponentLink1Description: Datasheet; ComponentLink1URL: https://wmsc.lcsc.com/wmsc/upload/file/pdf/v2/lcsc/2304140030_Murata-Electronics-LQP03TG2N0C02D_C162593.pdf; ComponentLink2Description: JLCPCB Part URL; ComponentLink2URL: https://jlcpcb.com/partdetail/C162593; ComponentLink3Description: LCSC Part URL; ComponentLink3URL: https://lcsc.com/product-detail/Inductors-SMD_Murata-Electronics-Murata-Electronics-LQP03TG2N0C02D_C162593.html
footprint IND-0201 (0201 (0603M) Inductor)
pins: 1, 2

## LQP03TG2N2B02D
designator L?  Inductance: 2.2nH
Inductor, 2.2nH, 250mΩ, 450mA, SMD 0201; Manufacturer: Murata Electronics; Manufacturer Part Number: LQP03TG2N2B02D; Self-Resonant Frequency: 1.2GHz; Q Factor: 13@500MHz; Package Size: 0201; JLCPCB Basic Part: No; JLCPCB Part Number: C86107; Supplier 1: LCSC; Category: Inductors; Supplier Part Number 1: C86107; Rated Current: 450mA; DC Resistance: 250mΩ; RoHS: Yes; ComponentLink1Description: Datasheet; ComponentLink1URL: https://wmsc.lcsc.com/wmsc/upload/file/pdf/v2/lcsc/2304140030_Murata-Electronics-LQP03TG2N2B02D_C86107.pdf; ComponentLink2Description: JLCPCB Part URL; ComponentLink2URL: https://jlcpcb.com/partdetail/C86107; ComponentLink3Description: LCSC Part URL; ComponentLink3URL: https://lcsc.com/product-detail/Inductors-SMD_Murata-Electronics-Murata-Electronics-LQP03TG2N2B02D_C86107.html
footprint IND-0201 (0201 (0603M) Inductor)
pins: 1, 2

## LQP03TG2N2C02D
designator L?  Inductance: 2.2nH
Inductor, 2.2nH, 250mΩ, 450mA, SMD 0201; Manufacturer: Murata Electronics; Manufacturer Part Number: LQP03TG2N2C02D; Self-Resonant Frequency: 12GHz; Q Factor: 13@500MHz; Package Size: 0201; JLCPCB Basic Part: No; JLCPCB Part Number: C337944; Supplier 1: LCSC; Category: Inductors; Supplier Part Number 1: C337944; Rated Current: 450mA; DC Resistance: 250mΩ; RoHS: Yes; ComponentLink1Description: Datasheet; ComponentLink1URL: https://wmsc.lcsc.com/wmsc/upload/file/pdf/v2/lcsc/2304140030_Murata-Electronics-LQP03TG2N2C02D_C337944.pdf; ComponentLink2Description: JLCPCB Part URL; ComponentLink2URL: https://jlcpcb.com/partdetail/C337944; ComponentLink3Description: LCSC Part URL; ComponentLink3URL: https://lcsc.com/product-detail/Inductors-SMD_Murata-Electronics-Murata-Electronics-LQP03TG2N2C02D_C337944.html
footprint IND-0201 (0201 (0603M) Inductor)
pins: 1, 2

## LQP03TG2N3B02D
designator L?  Inductance: 2.3nH
Inductor, 2.3nH, 250mΩ, 450mA, SMD 0201; Manufacturer: Murata Electronics; Manufacturer Part Number: LQP03TG2N3B02D; Self-Resonant Frequency: 6GHz; Q Factor: 13@500MHz; Package Size: 0201; JLCPCB Basic Part: No; JLCPCB Part Number: C2048374; Supplier 1: LCSC; Category: Inductors; Supplier Part Number 1: C2048374; Rated Current: 450mA; DC Resistance: 250mΩ; RoHS: Yes; ComponentLink1Description: Datasheet; ComponentLink1URL: https://wmsc.lcsc.com/wmsc/upload/file/pdf/v2/lcsc/2304140030_Murata-Electronics-LQP03TG2N3B02D_C2048374.pdf; ComponentLink2Description: JLCPCB Part URL; ComponentLink2URL: https://jlcpcb.com/partdetail/C2048374; ComponentLink3Description: LCSC Part URL; ComponentLink3URL: https://lcsc.com/product-detail/Inductors-SMD_Murata-Electronics-Murata-Electronics-LQP03TG2N3B02D_C2048374.html
footprint IND-0201 (0201 (0603M) Inductor)
pins: 1, 2

## LQP03TG2N3C02D
designator L?  Inductance: 2.3nH
Inductor, 2.3nH, 250mΩ, 450mA, SMD 0201; Manufacturer: Murata Electronics; Manufacturer Part Number: LQP03TG2N3C02D; Self-Resonant Frequency: 11.5GHz; Q Factor: 13@500MHz; Package Size: 0201; JLCPCB Basic Part: No; JLCPCB Part Number: C1331547; Supplier 1: LCSC; Category: Inductors; Supplier Part Number 1: C1331547; Rated Current: 450mA; DC Resistance: 250mΩ; RoHS: Yes; ComponentLink1Description: Datasheet; ComponentLink1URL: https://wmsc.lcsc.com/wmsc/upload/file/pdf/v2/lcsc/2304140030_Murata-Electronics-LQP03TG2N3C02D_C1331547.pdf; ComponentLink2Description: JLCPCB Part URL; ComponentLink2URL: https://jlcpcb.com/partdetail/C1331547; ComponentLink3Description: LCSC Part URL; ComponentLink3URL: https://lcsc.com/product-detail/Inductors-SMD_Murata-Electronics-Murata-Electronics-LQP03TG2N3C02D_C1331547.html
footprint IND-0201 (0201 (0603M) Inductor)
pins: 1, 2

## LQP03TG2N4B02D
designator L?  Inductance: 2.4nH
Inductor, 2.4nH, 250mΩ, 450mA, SMD 0201; Manufacturer: Murata Electronics; Manufacturer Part Number: LQP03TG2N4B02D; Self-Resonant Frequency: 13.7GHz; Q Factor: 13@500MHz; Package Size: 0201; JLCPCB Basic Part: No; JLCPCB Part Number: C86108; Supplier 1: LCSC; Category: Inductors; Supplier Part Number 1: C86108; Rated Current: 450mA; DC Resistance: 250mΩ; RoHS: Yes; ComponentLink1Description: Datasheet; ComponentLink1URL: https://wmsc.lcsc.com/wmsc/upload/file/pdf/v2/lcsc/2304140030_Murata-Electronics-LQP03TG2N4B02D_C86108.pdf; ComponentLink2Description: JLCPCB Part URL; ComponentLink2URL: https://jlcpcb.com/partdetail/C86108; ComponentLink3Description: LCSC Part URL; ComponentLink3URL: https://lcsc.com/product-detail/Inductors-SMD_Murata-Electronics-Murata-Electronics-LQP03TG2N4B02D_C86108.html
footprint IND-0201 (0201 (0603M) Inductor)
pins: 1, 2

## LQP03TG2N4C02D
designator L?  Inductance: 2.4nH
Inductor, 2.4nH, 250mΩ, 450mA, SMD 0201; Manufacturer: Murata Electronics; Manufacturer Part Number: LQP03TG2N4C02D; Self-Resonant Frequency: 13.7GHz; Q Factor: 13@500MHz; Package Size: 0201; JLCPCB Basic Part: No; JLCPCB Part Number: C337945; Supplier 1: LCSC; Category: Inductors; Supplier Part Number 1: C337945; Rated Current: 450mA; DC Resistance: 250mΩ; RoHS: Yes; ComponentLink1Description: Datasheet; ComponentLink1URL: https://wmsc.lcsc.com/wmsc/upload/file/pdf/v2/lcsc/2304140030_Murata-Electronics-LQP03TG2N4C02D_C337945.pdf; ComponentLink2Description: JLCPCB Part URL; ComponentLink2URL: https://jlcpcb.com/partdetail/C337945; ComponentLink3Description: LCSC Part URL; ComponentLink3URL: https://lcsc.com/product-detail/Inductors-SMD_Murata-Electronics-Murata-Electronics-LQP03TG2N4C02D_C337945.html
footprint IND-0201 (0201 (0603M) Inductor)
pins: 1, 2

## LQP03TG2N6B02D
designator L?  Inductance: 2.6nH
Inductor, 2.6nH, 250mΩ, 450mA, SMD 0201; Manufacturer: Murata Electronics; Manufacturer Part Number: LQP03TG2N6B02D; Self-Resonant Frequency: 6GHz; Q Factor: 13@500MHz; Package Size: 0201; JLCPCB Basic Part: No; JLCPCB Part Number: C237462; Supplier 1: LCSC; Category: Inductors; Supplier Part Number 1: C237462; Rated Current: 450mA; DC Resistance: 250mΩ; RoHS: Yes; ComponentLink1Description: Datasheet; ComponentLink1URL: https://wmsc.lcsc.com/wmsc/upload/file/pdf/v2/lcsc/2308111548_Murata-Electronics-LQP03TG2N6B02D_C237462.pdf; ComponentLink2Description: JLCPCB Part URL; ComponentLink2URL: https://jlcpcb.com/partdetail/C237462; ComponentLink3Description: LCSC Part URL; ComponentLink3URL: https://lcsc.com/product-detail/Inductors-SMD_Murata-Electronics-Murata-Electronics-LQP03TG2N6B02D_C237462.html
footprint IND-0201 (0201 (0603M) Inductor)
pins: 1, 2

## LQP03TG2N7B02D
designator L?  Inductance: 2.7nH
Inductor, 2.7nH, 250mΩ, 450mA, SMD 0201; Manufacturer: Murata Electronics; Manufacturer Part Number: LQP03TG2N7B02D; Self-Resonant Frequency: 13.1GHz; Q Factor: 13@500MHz; Package Size: 0201; JLCPCB Basic Part: No; JLCPCB Part Number: C86109; Supplier 1: LCSC; Category: Inductors; Supplier Part Number 1: C86109; Rated Current: 450mA; DC Resistance: 250mΩ; RoHS: Yes; ComponentLink1Description: Datasheet; ComponentLink1URL: https://wmsc.lcsc.com/wmsc/upload/file/pdf/v2/lcsc/2307031646_Murata-Electronics-LQP03TG2N7B02D_C86109.pdf; ComponentLink2Description: JLCPCB Part URL; ComponentLink2URL: https://jlcpcb.com/partdetail/C86109; ComponentLink3Description: LCSC Part URL; ComponentLink3URL: https://lcsc.com/product-detail/Inductors-SMD_Murata-Electronics-Murata-Electronics-LQP03TG2N7B02D_C86109.html
footprint IND-0201 (0201 (0603M) Inductor)
pins: 1, 2

## LQP03TG2N8B02D
designator L?  Inductance: 2.8nH
Inductor, 2.8nH, 250mΩ, 450mA, SMD 0201; Manufacturer: Murata Electronics; Manufacturer Part Number: LQP03TG2N8B02D; Self-Resonant Frequency: 12.2GHz; Q Factor: 13@500MHz; Package Size: 0201; JLCPCB Basic Part: No; JLCPCB Part Number: C237463; Supplier 1: LCSC; Category: Inductors; Supplier Part Number 1: C237463; Rated Current: 450mA; DC Resistance: 250mΩ; RoHS: Yes; ComponentLink1Description: Datasheet; ComponentLink1URL: https://wmsc.lcsc.com/wmsc/upload/file/pdf/v2/lcsc/2304140030_Murata-Electronics-LQP03TG2N8B02D_C237463.pdf; ComponentLink2Description: JLCPCB Part URL; ComponentLink2URL: https://jlcpcb.com/partdetail/C237463; ComponentLink3Description: LCSC Part URL; ComponentLink3URL: https://lcsc.com/product-detail/Inductors-SMD_Murata-Electronics-Murata-Electronics-LQP03TG2N8B02D_C237463.html
footprint IND-0201 (0201 (0603M) Inductor)
pins: 1, 2

## LQP03TG3N7B02D
designator L?  Inductance: 3.7nH
Inductor, 3.7nH, 350mΩ, 350mA, SMD 0201; Manufacturer: Murata Electronics; Manufacturer Part Number: LQP03TG3N7B02D; Self-Resonant Frequency: 6GHz; Q Factor: 13@500MHz; Package Size: 0201; JLCPCB Basic Part: No; JLCPCB Part Number: C237465; Supplier 1: LCSC; Category: Inductors; Supplier Part Number 1: C237465; Rated Current: 350mA; DC Resistance: 350mΩ; RoHS: Yes; ComponentLink1Description: Datasheet; ComponentLink1URL: https://wmsc.lcsc.com/wmsc/upload/file/pdf/v2/lcsc/2308111548_Murata-Electronics-LQP03TG3N7B02D_C237465.pdf; ComponentLink2Description: JLCPCB Part URL; ComponentLink2URL: https://jlcpcb.com/partdetail/C237465; ComponentLink3Description: LCSC Part URL; ComponentLink3URL: https://lcsc.com/product-detail/Inductors-SMD_Murata-Electronics-Murata-Electronics-LQP03TG3N7B02D_C237465.html
footprint IND-0201 (0201 (0603M) Inductor)
pins: 1, 2

## LQP03TG3N9C02D
designator L?  Inductance: 3.9nH
Inductor, 3.9nH, 350mΩ, 350mA, SMD 0201; Manufacturer: Murata Electronics; Manufacturer Part Number: LQP03TG3N9C02D; Self-Resonant Frequency: 6.5GHz; Q Factor: 13@500MHz; Package Size: 0201; JLCPCB Basic Part: No; JLCPCB Part Number: C337950; Supplier 1: LCSC; Category: Inductors; Supplier Part Number 1: C337950; Rated Current: 350mA; DC Resistance: 350mΩ; RoHS: Yes; ComponentLink1Description: Datasheet; ComponentLink1URL: https://wmsc.lcsc.com/wmsc/upload/file/pdf/v2/lcsc/2304140030_Murata-Electronics-LQP03TG3N9C02D_C337950.pdf; ComponentLink2Description: JLCPCB Part URL; ComponentLink2URL: https://jlcpcb.com/partdetail/C337950; ComponentLink3Description: LCSC Part URL; ComponentLink3URL: https://lcsc.com/product-detail/Inductors-SMD_Murata-Electronics-Murata-Electronics-LQP03TG3N9C02D_C337950.html
footprint IND-0201 (0201 (0603M) Inductor)
pins: 1, 2

## LQP03TG4N3J02D
designator L?  Inductance: 4.3nH
Inductor, 4.3nH, ±5%, 580mΩ, 300mA, SMD 0201; Manufacturer: Murata Electronics; Manufacturer Part Number: LQP03TG4N3J02D; Self-Resonant Frequency: 6.5GHz; Q Factor: 13@500MHz; Package Size: 0201; JLCPCB Basic Part: No; JLCPCB Part Number: C437358; Supplier 1: LCSC; Category: Inductors; Supplier Part Number 1: C437358; Tolerance: ±5%; Rated Current: 300mA; DC Resistance: 580mΩ; RoHS: Yes; ComponentLink1Description: Datasheet; ComponentLink1URL: https://wmsc.lcsc.com/wmsc/upload/file/pdf/v2/lcsc/2304140030_Murata-Electronics-LQP03TG4N3J02D_C437358.pdf; ComponentLink2Description: JLCPCB Part URL; ComponentLink2URL: https://jlcpcb.com/partdetail/C437358; ComponentLink3Description: LCSC Part URL; ComponentLink3URL: https://lcsc.com/product-detail/Inductors-SMD_Murata-Electronics-Murata-Electronics-LQP03TG4N3J02D_C437358.html
footprint IND-0201 (0201 (0603M) Inductor)
pins: 1, 2

## LQP03TG4N7H02D
designator L?  Inductance: 4.7nH
Inductor, 4.7nH, ±3%, 720mΩ, 250mA, SMD 0201; Manufacturer: Murata Electronics; Manufacturer Part Number: LQP03TG4N7H02D; Self-Resonant Frequency: 6GHz; Q Factor: 12@500MHz; Package Size: 0201; JLCPCB Basic Part: No; JLCPCB Part Number: C86117; Supplier 1: LCSC; Category: Inductors; Supplier Part Number 1: C86117; Tolerance: ±3%; Rated Current: 250mA; DC Resistance: 720mΩ; RoHS: Yes; ComponentLink1Description: Datasheet; ComponentLink1URL: https://wmsc.lcsc.com/wmsc/upload/file/pdf/v2/lcsc/2304140030_Murata-Electronics-LQP03TG4N7H02D_C86117.pdf; ComponentLink2Description: JLCPCB Part URL; ComponentLink2URL: https://jlcpcb.com/partdetail/C86117; ComponentLink3Description: LCSC Part URL; ComponentLink3URL: https://lcsc.com/product-detail/Inductors-SMD_Murata-Electronics-Murata-Electronics-LQP03TG4N7H02D_C86117.html
footprint IND-0201 (0201 (0603M) Inductor)
pins: 1, 2

## LQP03TG5N1H02D
designator L?  Inductance: 5.1nH
Inductor, 5.1nH, ±3%, 720mΩ, 250mA, SMD 0201; Manufacturer: Murata Electronics; Manufacturer Part Number: LQP03TG5N1H02D; Self-Resonant Frequency: 6.5GHz; Q Factor: 12@500MHz; Package Size: 0201; JLCPCB Basic Part: No; JLCPCB Part Number: C77112; Supplier 1: LCSC; Category: Inductors; Supplier Part Number 1: C77112; Tolerance: ±3%; Rated Current: 250mA; DC Resistance: 720mΩ; RoHS: Yes; ComponentLink1Description: Datasheet; ComponentLink1URL: https://wmsc.lcsc.com/wmsc/upload/file/pdf/v2/lcsc/2304140030_Murata-Electronics-LQP03TG5N1H02D_C77112.pdf; ComponentLink2Description: JLCPCB Part URL; ComponentLink2URL: https://jlcpcb.com/partdetail/C77112; ComponentLink3Description: LCSC Part URL; ComponentLink3URL: https://lcsc.com/product-detail/Inductors-SMD_Murata-Electronics-Murata-Electronics-LQP03TG5N1H02D_C77112.html
footprint IND-0201 (0201 (0603M) Inductor)
pins: 1, 2

## LQP03TG5N6H02D
designator L?  Inductance: 5.6nH
Inductor, 5.6nH, ±3%, 880mΩ, 250mA, SMD 0201; Manufacturer: Murata Electronics; Manufacturer Part Number: LQP03TG5N6H02D; Self-Resonant Frequency: 6GHz; Q Factor: 12@500MHz; Package Size: 0201; JLCPCB Basic Part: No; JLCPCB Part Number: C86118; Supplier 1: LCSC; Category: Inductors; Supplier Part Number 1: C86118; Tolerance: ±3%; Rated Current: 250mA; DC Resistance: 880mΩ; RoHS: Yes; ComponentLink1Description: Datasheet; ComponentLink1URL: https://wmsc.lcsc.com/wmsc/upload/file/pdf/v2/lcsc/2304140030_Murata-Electronics-LQP03TG5N6H02D_C86118.pdf; ComponentLink2Description: JLCPCB Part URL; ComponentLink2URL: https://jlcpcb.com/partdetail/C86118; ComponentLink3Description: LCSC Part URL; ComponentLink3URL: https://lcsc.com/product-detail/Inductors-SMD_Murata-Electronics-Murata-Electronics-LQP03TG5N6H02D_C86118.html
footprint IND-0201 (0201 (0603M) Inductor)
pins: 1, 2

## LQP03TG6N2H02D
designator L?  Inductance: 6.2nH
Inductor, 6.2nH, ±3%, 1.15Ω, 200mA, SMD 0201; Manufacturer: Murata Electronics; Manufacturer Part Number: LQP03TG6N2H02D; Self-Resonant Frequency: 6GHz; Q Factor: 12@500MHz; Package Size: 0201; JLCPCB Basic Part: No; JLCPCB Part Number: C86119; Supplier 1: LCSC; Category: Inductors; Supplier Part Number 1: C86119; Tolerance: ±3%; Rated Current: 200mA; DC Resistance: 1.15Ω; RoHS: Yes; ComponentLink1Description: Datasheet; ComponentLink1URL: https://wmsc.lcsc.com/wmsc/upload/file/pdf/v2/lcsc/2304140030_Murata-Electronics-LQP03TG6N2H02D_C86119.pdf; ComponentLink2Description: JLCPCB Part URL; ComponentLink2URL: https://jlcpcb.com/partdetail/C86119; ComponentLink3Description: LCSC Part URL; ComponentLink3URL: https://lcsc.com/product-detail/Inductors-SMD_Murata-Electronics-Murata-Electronics-LQP03TG6N2H02D_C86119.html
footprint IND-0201 (0201 (0603M) Inductor)
pins: 1, 2